# Altium footprint library Connectors.PcbLib: 2 footprints
Each footprint in its own frame and in the unit in brackets; x right, y up, seen from the top. Pads: shape width x height; smd on the part's side, far side on the other; paste and mask are expansions set on the pad; w line width, h text height; cw(c..) or ccw(c..) is an arc to the next point about the centre after c.
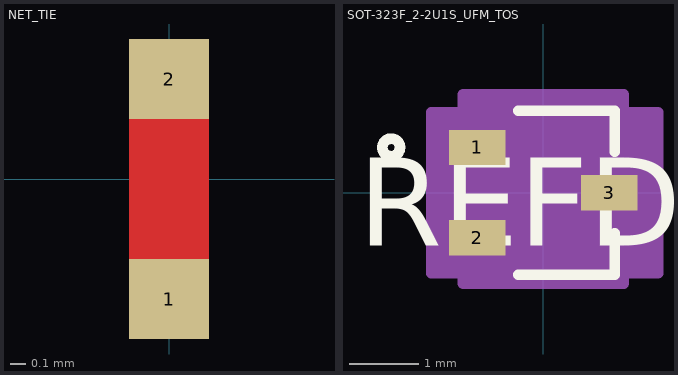
[diagram p0: the footprints below, top view; thin cyan lines are the x and y axes]

## NET_TIE [mil]
pads (2):
  rect 20x20 smd mask-99999: 1(0,-30) 2(0,25)
Top Layer:
  rectangle: -10,-25 10,19.88
Top Solder:
  region: 0,-15

## SOT-323F_2-2U1S_UFM_TOS [mil]
pads (3):
  rect 32x20 smd paste+0 mask+0: 1(-37.4,25.59) 2(-37.4,-25.59) 3(37.4,0)
Top Overlay:
  circle w6: c-86.2,25.59 r5
  lines w6: -14.15,-46.5 40.5,-46.5 40.5,-23.1 ; -14.15,46.5 40.5,46.5 40.5,23.1
  text "REFDES" at -105,-30 h50
Mechanical 13:
  circle w0: c-21.4,25.59 r3
  lines w0: -12,41.5 ccw(c0,41.5) 12,41.5
  lines w1: -35.5,-41.5 -35.5,41.5 35.5,41.5 35.5,-41.5 -35.5,-41.5
  text "RefDes2" at -105,-30 h50
Mechanical 15:
  region: -45.5,-45.59 -63.4,-45.59 -63.4,45.59 -45.5,45.59 -45.5,55.59 45.5,55.59 45.5,45.59 63.4,45.59 63.4,-45.59 45.5,-45.59 45.5,-51.5 -45.5,-51.5
  lines w6: -63.4,-45.59 -45.5,-45.59 -45.5,-51.5 45.5,-51.5 45.5,-45.59 65,-45.59 65,45.59 45.5,45.59 45.5,55.59 -45.5,55.59 -45.5,45.59 -63.4,45.59 -63.4,-45.59
3D body "SOT-323F_2-2U1S_UFM_TOS.step": height 30.12, standoff 0, extent -35.51,-41.5 35.51,41.5